# Altium schematic symbol library Linear regulators.SchLib: 3 symbols
Pins are listed as number, name and electrical type; pins without a type are passive.

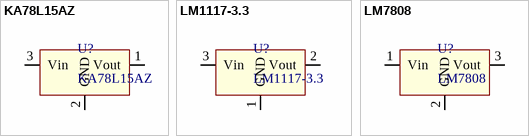
[diagram p0: symbols KA78L15AZ to LM7808]

## KA78L15AZ
designator U?
15V Linear regulator
footprint TO-92-7
footprint TO-92_CB127SF127
footprint TO-92_CB127SF254
footprint TO-92_CB254
footprint TO-92_CB254SF127
footprint TO-92_CB254SF254
footprint TO-92_CF127
footprint TO-92_CF127SB254
footprint TO-92_LBRF127
footprint TO-92_LBRF254
footprint TO-92_LFRB127
footprint TO-92_LFRB254
footprint TO-92_SB127
footprint TO-92_SB254
footprint TO-92_SF127
footprint TO-92_SF254
footprint TO-92_SS127
footprint TO-92_SS254
pins: 1 Vout, 2 GND, 3 Vin

## LM1117-3.3
designator U?
3.3V Linear regulator
footprint LC-SOT-223
footprint TO-92_CB127SF127
footprint TO-92_CB127SF254
footprint TO-92_CB254
footprint TO-92_CB254SF127
footprint TO-92_CB254SF254
footprint TO-92_CF127
footprint TO-92_CF127SB254
footprint TO-92_LBRF127
footprint TO-92_LBRF254
footprint TO-92_LFRB127
footprint TO-92_LFRB254
footprint TO-92_SB127
footprint TO-92_SB254
footprint TO-92_SF127
footprint TO-92_SF254
footprint TO-92_SS127
footprint TO-92_SS254
pins: 1 GND, 2 Vout, 3 Vin

## LM7808
designator U?
8V Linear regulator
footprint TO-92-7
footprint TO-92_CB127SF127
footprint TO-92_CB127SF254
footprint TO-92_CB254
footprint TO-92_CB254SF127
footprint TO-92_CB254SF254
footprint TO-92_CF127
footprint TO-92_CF127SB254
footprint TO-92_LBRF127
footprint TO-92_LBRF254
footprint TO-92_LFRB127
footprint TO-92_LFRB254
footprint TO-92_SB127
footprint TO-92_SB254
footprint TO-92_SF127
footprint TO-92_SF254
footprint TO-92_SS127
footprint TO-92_SS254
pins: 1 Vin, 2 GND, 3 Vout